# Altium schematic symbol library Si5351A-B-GT.SchLib: 1 symbol
Pins are listed as number, name and electrical type; pins without a type are passive.

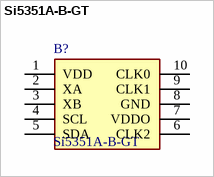
[diagram p0: symbol Si5351A-B-GT]

## Si5351A-B-GT
designator B?
Clock Generator, Si5351A-B-GT Silicon Labs Si5351A-B-GT, Clock Generator 100MHz 55%, 10-Pin MSOP; Geometry.Height: 1.1mm; Manufacturer_Name: Silicon Labs; Manufacturer_Part_Number: Si5351A-B-GT; Mouser Part Number: 634-SI5351A-B-GT; Mouser Price/Stock: https://www.mouser.co.uk/ProductDetail/Silicon-Labs/SI5351A-B-GT?qs=p9T7GgSe1IEO%252BMfC%2FKPFfA%3D%3D; Arrow Part Number: SI5351A-B-GT; Arrow Price/Stock: https://www.arrow.com/en/products/si5351a-b-gt/silicon-labs; Datasheet Link: https://componentsearchengine.com/Datasheets/1/Si5351A-B-GT.pdf
footprint SOP50P490X110-10N
pins: 1 VDD, 2 XA, 3 XB, 4 SCL, 5 SDA, 6 CLK2, 7 VDDO, 8 GND, 9 CLK1, 10 CLK0